# Altium footprint library ETech PCB Rev 1.0.PcbLib: 102 footprints (part 1 of 7)
Each footprint in its own frame and in the unit in brackets; x right, y up, seen from the top. Pads: shape width x height; smd on the part's side, far side on the other; paste and mask are expansions set on the pad; w line width, h text height; cw(c..) or ccw(c..) is an arc to the next point about the centre after c.
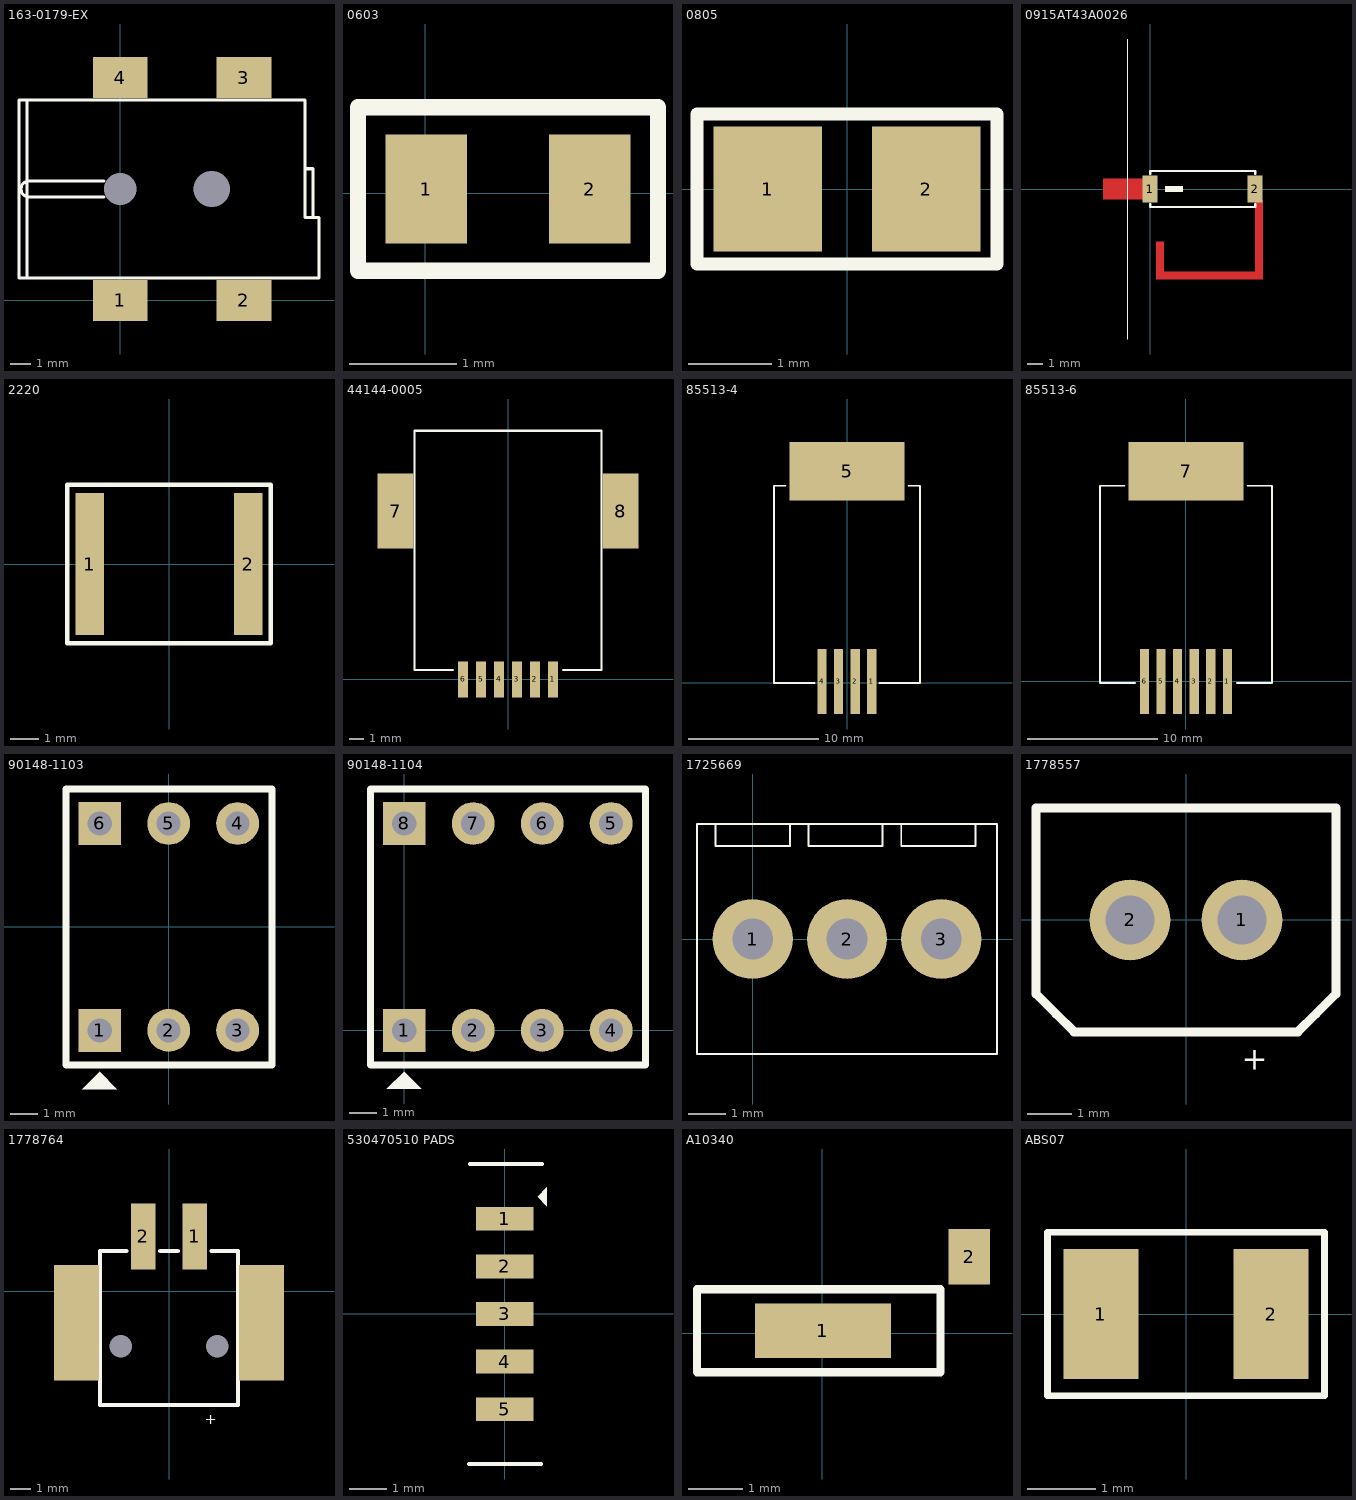
[diagram p0: the footprints below, top view; thin cyan lines are the x and y axes]

## 163-0179-EX [mm]
pads (6):
  rect 2.7x2 smd: 1(0,0) 2(6.1,0) 3(6.1,11) 4(0,11)
  round 1.5 hole 1.6: ""(0,5.5)
  round 1.6 hole 1.8: ""(4.5,5.5)
Top Overlay:
  lines w0.15: -4.5,5.1 cw(c-4.5,5.5) -4.5,5.9
  lines w0.152: -4.6,1.1 -4.6,9.9 ; -4.5,5.1 -0.8,5.1 ; -4.5,5.9 -0.8,5.9 ; 9.1,6.5 9.5,6.5 9.5,4.1 ; 9.1,6.5 9.1,9.9 -5,9.9 -5,1.1 9.8,1.1 9.8,4.1 9.5,4.1 ; 9.1,6.5 9.1,4.1 9.5,4.1

## 0603 [mil]
height 751.97
pads (2):
  rect 30x40 smd: 1(0.42,1.6) 2(60.42,1.6)
Top Overlay:
  lines w6: -24.57,-28.4 85.42,-28.4 85.42,31.6 -24.57,31.6 -24.57,-28.4

## 0805 [mm]
height 0.45
pads (2):
  rect 1.3x1.5 smd: 1(-0.95,0) 2(0.95,0)
Top Overlay:
  lines w0.152: -1.8,-0.9 -1.8,0.9 1.8,0.9 1.8,-0.9 -1.8,-0.9

## 0915AT43A0026 [mm]
height 19.1
pads (2):
  rect 1x1.8 smd: 1(0,0) 2(7,0)
Top Layer:
  region: -3.125,-0.687 -3.125,0.688 -0.45,0.687 -0.45,-0.037 -0.45,-0.687
  region: 7,-0.75 7.5,-0.75 7.5,-4.9 7.5,-6 7.25,-6 7,-6
  region: 0.4,-6 0.4,-5.5 6.4,-5.5 7.5,-5.5 7.5,-5.75 7.5,-6
  region: 0.4,-3.5 0.9,-3.5 0.9,-4.9 0.9,-6 0.65,-6 0.4,-6
Top Overlay:
  rectangle: 1,-0.2 2.2,0.2
  lines w0.025: -1.5,-10 -1.5,10
  lines w0.152: 0,-1 0,-1.2 7,-1.2 7,-1 ; 0,1 0,1.2 7,1.2 7,1

## 2220 [mm]
height 19.1
pads (2):
  rect 1x5 smd: 1(-2.8,0) 2(2.8,0)
Top Overlay:
  lines w0.152: -3.6,-2.8 -3.6,2.8 3.6,2.8 3.6,-2.8 -3.6,-2.8

## 44144-0005 [mm]
height 1.1
pads (8):
  rect 0.7x2.54 smd: 1(3.175,0) 2(1.905,0) 3(0.635,0) 4(-0.635,0) 5(-1.905,0) 6(-3.175,0)
  rect 2.54x5.3 smd: 7(-7.95,11.895) 8(7.95,11.895)
Top Overlay:
  lines w0.15: -3.895,0.67 -6.595,0.67 -6.595,17.57 6.605,17.57 6.605,0.67 3.905,0.67

## 85513-4 [mm]
height 1.1
pads (5):
  rect 0.7x5 smd: 1(1.9,0.12) 2(0.63,0.12) 3(-0.64,0.12) 4(-1.91,0.12)
  rect 8.8x4.5 smd: 5(0,16.22)
Top Overlay:
  lines w0.15: -4.7,15.12 -5.6,15.12 -5.6,0 -2.5,0 ; 2.5,0 5.6,0 5.6,15.12 4.72,15.12

## 85513-6 [mm]
height 1.1
pads (7):
  rect 0.7x5 smd: 1(3.175,0) 2(1.905,0) 3(0.635,0) 4(-0.635,0) 5(-1.905,0) 6(-3.175,0)
  rect 8.8x4.5 smd: 7(0.005,16.1)
Top Overlay:
  lines w0.15: -4.695,15 -6.595,15 -6.595,-0.12 -3.895,-0.12 ; 3.905,-0.12 6.605,-0.12 6.605,15 4.725,15

## 90148-1103 [mil]
height 751.97
pads (6):
  rect 62x62 hole 35: 1(-100,-150) 6(-100,150)
  round 62 hole 35: 2(0,-150) 3(100,-150) 4(100,150) 5(0,150)
Top Overlay:
  region: -100,-210 -125,-235 -75,-235
  lines w10: -149,-200 150,-200 150,200 -149,200 -149,-200

## 90148-1104 [mil]
height 751.97
pads (8):
  rect 62x62 hole 35: 1(0,0) 8(0,300)
  round 62 hole 35: 2(100,0) 3(200,0) 4(300,0) 5(300,300) 6(200,300) 7(100,300)
Top Overlay:
  region: 0,-60 -25,-85 25,-85
  lines w10: -49,-50 -49,350 350,350 350,-50 -49,-50

## 1725669 [mil] "Connector; Terminal; 3 Position, 2.45mm"
height 137.8
pads (3):
  round 85 hole 43.31: 1(0,0) 2(100,0) 3(200,0)
Top Overlay:
  lines w1.97: -39.37,122.05 -39.37,98.43 39.37,98.43 39.37,122.05 ; 59.06,122.05 59.06,98.43 137.8,98.43 137.8,122.05 ; 157.48,122.05 157.48,98.43 236.22,98.43 236.22,122.05 ; -59.06,-122.05 -59.06,122.05 259.06,122.05 259.06,-122.05 -59.06,-122.05

## 1778557 [mm] "Connector; Header; 2 Position, 1.25mm"
height 3.5
pads (2):
  round 1.8 hole 1.1: 1(1.25,0) 2(-1.25,0)
Top Overlay:
  lines w0.2: -3.35,2.5 -3.35,-1.65 -2.9,-2.1 -2.5,-2.5 2.5,-2.5 2.9,-2.1 3.35,-1.65 3.35,2.5 2.075,2.5 ; -3.3,2.5 2.1,2.5
  text "+" at 1.25,-3.35 h0.51

## 1778764 [mm] "Connector; Header; 2 Position, 1.25mm"
height 3.5
pads (6):
  rect 1.2x3.2 smd: 1(1.25,2.675) 2(-1.25,2.675)
  rect 2.2x5.6 smd: ""(-4.5,-1.525) ""(4.5,-1.525)
  round 1 hole 1.1 unplated: ""(-2.35,-2.675) ""(2.35,-2.675)
Top Overlay:
  lines w0.2: -2.075,1.975 -3.35,1.975 -3.35,-5.525 3.35,-5.525 3.35,1.975 2.075,1.975 ; -0.425,1.975 0.425,1.975
  text "+" at 1.75,-6.475 h0.51

## 530470510 PADS [mil] "Connector; 5 Position, 1.25mm"
height 39.37
pads (5):
  rect 60x25 smd: 1(0,100) 2(0,50) 3(0,0) 4(0,-50) 5(0,-100)
Top Overlay:
  region: 34.45,123.03 44.29,132.87 44.29,113.19
  lines w3.94: -37.4,-157.48 38.39,-157.48 ; -36.42,157.48 39.37,157.48

## A10340 [mm]
height 19.1
pads (2):
  rect 2.5x1 smd: 1(0.011,0.041)
  rect 0.762x1.016 smd: 2(2.7,1.4)
Top Overlay:
  lines w0.152: -2.3,-0.721 2.17,-0.721 2.17,0.803 -2.3,0.803 -2.3,-0.721

## ABS07 [mm]
pads (2):
  rect 1.1x1.9 smd: 1(-1.25,0) 2(1.25,0)
Top Overlay:
  lines w0.1: -2.032,-1.2 2.032,-1.2 2.032,1.2 -2.032,1.2 -2.032,-1.2